# Altium footprint library PowerLoadAdjustableModule.PcbLib: 49 footprints (part 3 of 4)
Each footprint in its own frame and in the unit in brackets; x right, y up, seen from the top. Pads: shape width x height; smd on the part's side, far side on the other; paste and mask are expansions set on the pad; w line width, h text height; cw(c..) or ccw(c..) is an arc to the next point about the centre after c.
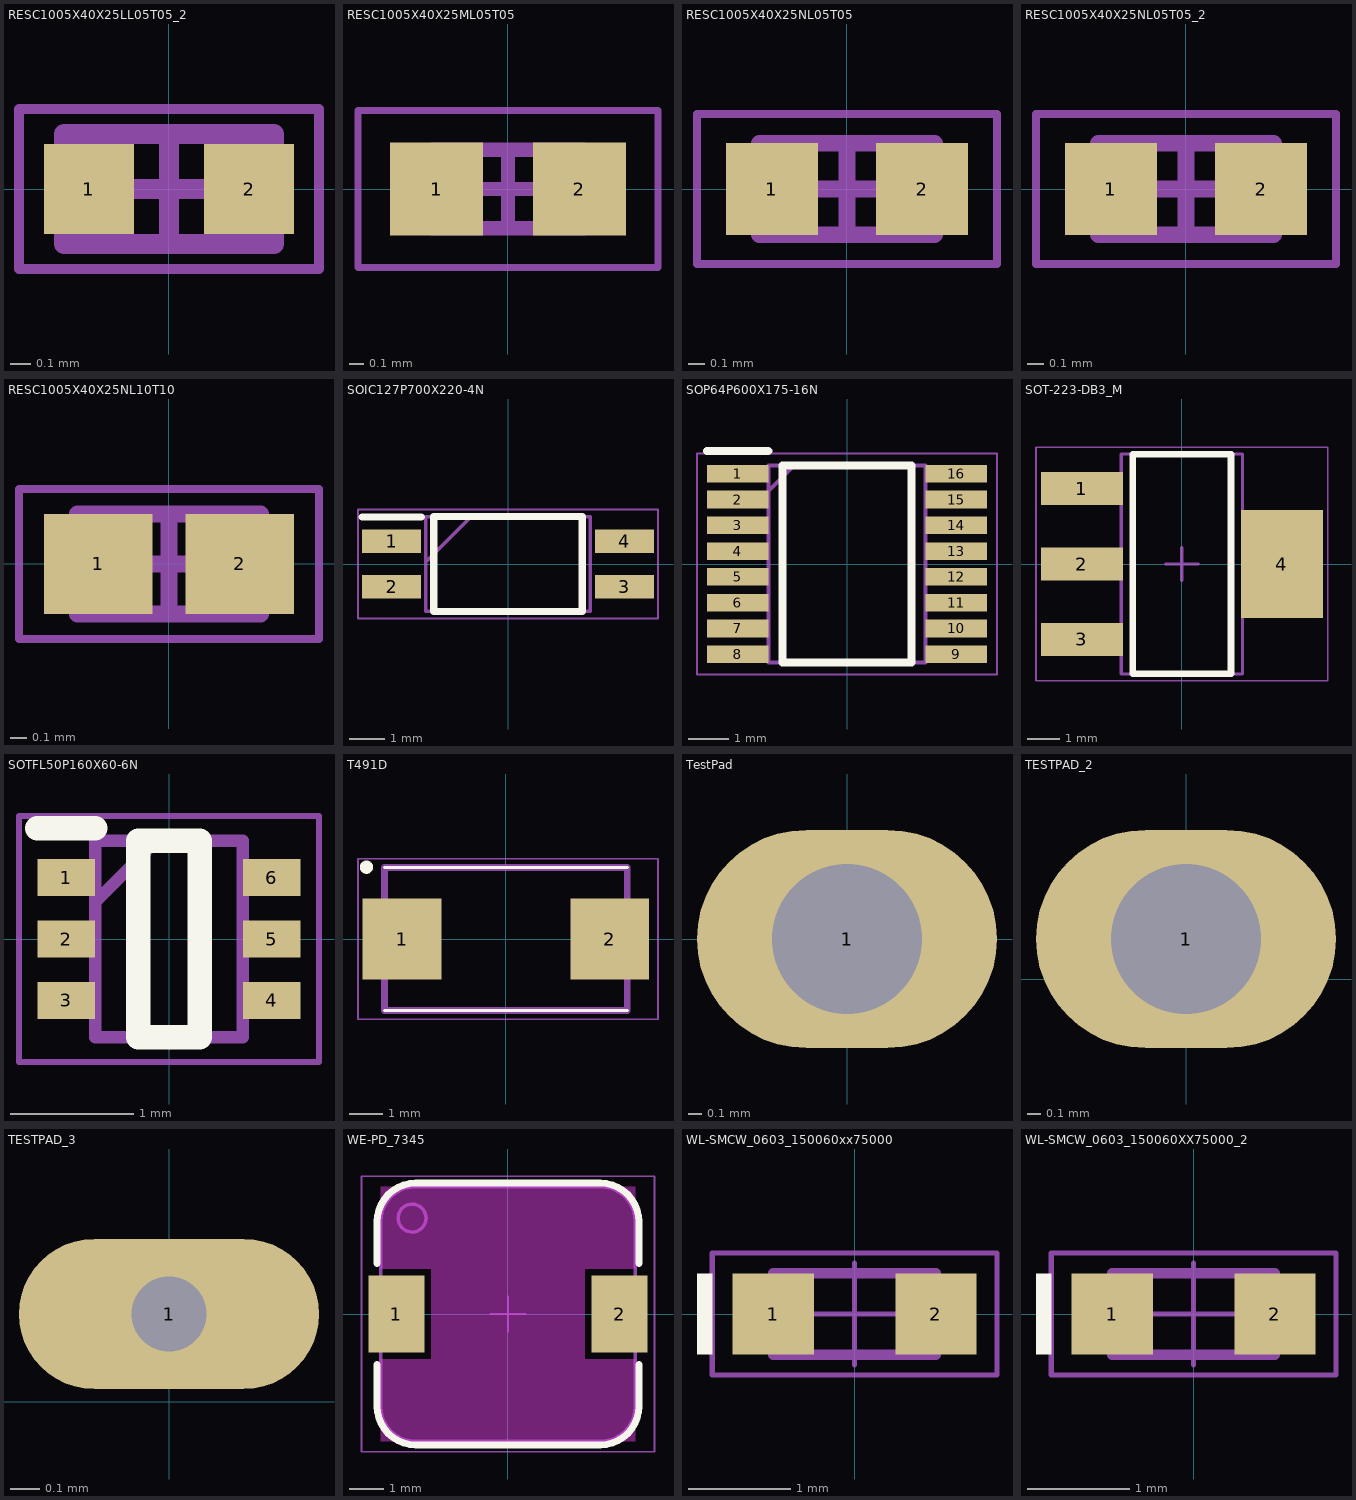
[diagram p2: the footprints below, top view; thin cyan lines are the x and y axes]

## RESC1005X40X25LL05T05_2 [mm]
pads (2):
  rect 0.45x0.45 smd: 1(-0.4,0) 2(0.4,0)
Top 3D Body:
  lines w0.1: -0.525,-0.275 0.525,-0.275 0.525,0.275 -0.525,0.275 -0.525,-0.275
Top Courtyard:
  lines w0.05: -0.75,-0.4 0.75,-0.4 0.75,0.4 -0.75,0.4 -0.75,-0.4
  lines w0.1: -0.275,0 0.275,0 ; 0,-0.275 0,0.275
3D body "RESC1005X04L.step": height 0.4, standoff 0, extent -0.525,-0.275 0.525,0.275

## RESC1005X40X25ML05T05 [mm]
pads (2):
  rect 0.65x0.65 smd: 1(-0.5,0) 2(0.5,0)
Top 3D Body:
  lines w0.1: -0.525,-0.275 -0.525,0.275 0.525,0.275 0.525,-0.275 -0.525,-0.275
Top Courtyard:
  lines w0.05: -1.05,-0.55 -1.05,0.55 1.05,0.55 1.05,-0.55 -1.05,-0.55
  lines w0.1: -0.275,0 0.275,0 ; 0,-0.275 0,0.275
3D body: height 0.4, standoff 0, extent -0.275,-0.275 0.275,0.275
3D body: height 0.4, standoff 0, extent -0.525,-0.275 -0.275,0.275
3D body: height 0.4, standoff 0, extent 0.275,-0.275 0.525,0.275

## RESC1005X40X25NL05T05 [mm]
pads (2):
  rect 0.55x0.55 smd: 1(-0.45,0) 2(0.45,0)
Top 3D Body:
  lines w0.1: -0.525,-0.275 -0.525,0.275 0.525,0.275 0.525,-0.275 -0.525,-0.275
Top Courtyard:
  lines w0.05: -0.9,-0.45 -0.9,0.45 0.9,0.45 0.9,-0.45 -0.9,-0.45
  lines w0.1: -0.275,0 0.275,0 ; 0,-0.275 0,0.275
3D body "RESC1005X04N.step": height 0.4, standoff 0, extent -0.525,-0.275 0.525,0.275

## RESC1005X40X25NL05T05_2 [mm]
pads (2):
  rect 0.55x0.55 smd: 1(-0.45,0) 2(0.45,0)
Top 3D Body:
  lines w0.1: -0.525,-0.275 -0.525,0.275 0.525,0.275 0.525,-0.275 -0.525,-0.275
Top Courtyard:
  lines w0.05: -0.9,-0.45 -0.9,0.45 0.9,0.45 0.9,-0.45 -0.9,-0.45
  lines w0.1: -0.275,0 0.275,0 ; 0,-0.275 0,0.275
3D body: height 0.4, standoff 0, extent 0.275,-0.275 0.525,0.275
3D body: height 0.4, standoff 0, extent -0.525,-0.275 -0.275,0.275
3D body: height 0.4, standoff 0, extent -0.275,-0.275 0.275,0.275

## RESC1005X40X25NL10T10 [mm]
pads (2):
  rect 0.65x0.6 smd: 1(-0.425,0) 2(0.425,0)
Top 3D Body:
  lines w0.1: -0.55,-0.3 0.55,-0.3 0.55,0.3 -0.55,0.3 -0.55,-0.3
Top Courtyard:
  lines w0.05: -0.9,-0.45 0.9,-0.45 0.9,0.45 -0.9,0.45 -0.9,-0.45
  lines w0.1: -0.3,0 0.3,0 ; 0,-0.3 0,0.3
3D body: height 0.4, standoff 0, extent 0.3,-0.3 0.55,0.3
3D body: height 0.4, standoff 0, extent -0.55,-0.3 -0.3,0.3
3D body: height 0.4, standoff 0, extent -0.3,-0.3 0.3,0.3

## SOIC127P700X220-4N [mm]
pads (4):
  rect 1.65x0.65 smd: 1(-3.25,0.635) 2(-3.25,-0.635) 3(3.25,-0.635) 4(3.25,0.635)
Top Overlay:
  lines w0.2: -4.075,1.31 -2.425,1.31 ; -2.075,-1.325 2.075,-1.325 2.075,1.325 -2.075,1.325 -2.075,-1.325
Top 3D Body:
  lines w0.1: -2.3,0.055 -1.03,1.325 ; -2.3,-1.325 2.3,-1.325 2.3,1.325 -2.3,1.325 -2.3,-1.325
Top Courtyard:
  lines w0.05: -4.191,-1.524 4.191,-1.524 4.191,1.524 -4.191,1.524 -4.191,-1.524
3D body "TLP291_Y,SE_T.stp": height 2.2, standoff 0, extent -3.5,-1.325 3.5,1.325

## SOP64P600X175-16N [mm]
pads (16):
  rect 1.52x0.44 smd: 1(-2.715,2.24) 2(-2.715,1.6) 3(-2.715,0.96) 4(-2.715,0.32) 5(-2.715,-0.32) 6(-2.715,-0.96) 7(-2.715,-1.6) 8(-2.715,-2.24) 9(2.715,-2.24) 10(2.715,-1.6) 11(2.715,-0.96) 12(2.715,-0.32) 13(2.715,0.32) 14(2.715,0.96) 15(2.715,1.6) 16(2.715,2.24)
Top Overlay:
  lines w0.2: -3.475,2.81 -1.955,2.81 ; -1.605,-2.45 -1.605,2.45 1.605,2.45 1.605,-2.45 -1.605,-2.45
Top 3D Body:
  lines w0.1: -1.955,1.81 -1.315,2.45 ; -1.955,-2.45 -1.955,2.45 1.955,2.45 1.955,-2.45 -1.955,-2.45
Top Courtyard:
  lines w0.05: -3.725,-2.75 -3.725,2.75 3.725,2.75 3.725,-2.75 -3.725,-2.75
3D body "ADUM1440ARQZ.stp": height 1.75, standoff 0, extent -2.997,-2.45 2.997,2.45

## SOT-223-DB3_M [mm]
pads (4):
  rect 2.5x1 smd: 1(-3.05,2.3) 2(-3.05,0) 3(-3.05,-2.3)
  rect 2.5x3.3 smd: 4(3.05,0)
Top Overlay:
  lines w0.2: -1.5,-3.35 -1.5,3.35 1.5,3.35 1.5,-3.35 -1.5,-3.35
Top 3D Body:
  lines w0.1: -1.85,-3.35 -1.85,3.35 1.85,3.35 1.85,-3.35 -1.85,-3.35
Top Courtyard:
  lines w0.05: -4.445,-3.556 -4.445,3.556 4.445,3.556 4.445,-3.556 -4.445,-3.556
  lines w0.1: -0.5,0 0.5,0 ; 0,-0.5 0,0.5
3D body: height 1.8, standoff 0.02, extent -1.85,-3.35 1.85,3.35

## SOTFL50P160X60-6N [mm]
pads (6):
  rect 0.47x0.3 smd: 1(-0.835,0.5) 2(-0.835,0) 3(-0.835,-0.5) 4(0.835,-0.5) 5(0.835,0) 6(0.835,0.5)
Top Overlay:
  lines w0.2: -1.07,0.9 -0.6,0.9 ; -0.25,-0.8 -0.25,0.8 0.25,0.8 0.25,-0.8 -0.25,-0.8
Top 3D Body:
  lines w0.1: -0.6,0.3 -0.1,0.8 ; -0.6,-0.8 -0.6,0.8 0.6,0.8 0.6,-0.8 -0.6,-0.8
Top Courtyard:
  lines w0.05: -1.22,-1 -1.22,1 1.22,1 1.22,-1 -1.22,-1
3D body "SI1029X-T1-GE3.stp": height 0.6, standoff 0, extent -0.8,-0.8 0.8,0.8

## T491D [mm]
pads (2):
  rect 2.37x2.43 smd: 1(-3.12,0) 2(3.12,0)
Top Overlay:
  circle w0.2: c-4.191,2.159 r0.1
  lines w0.1: -3.65,-2.15 3.65,-2.15 ; -3.65,2.15 3.65,2.15
Top 3D Body:
  lines w0.2: -3.65,-2.15 -3.65,2.15 3.65,2.15 3.65,-2.15 -3.65,-2.15
Top Courtyard:
  lines w0.05: -4.445,-2.413 -4.445,2.413 4.572,2.413 4.572,-2.413 -4.445,-2.413
3D body "T491D106K050AT.stp": height 3.11, standoff 0, extent -3.8,-2.3 3.8,2.3

## TestPad [mm]
pads (1):
  oval 2.2x1.6 hole 1.1: 1(0,0)

## TESTPAD_2 [mm]
pads (1):
  oval 2.2x1.6 hole 1.1: 1(0,0.297)

## TESTPAD_3 [mil]
pads (1):
  oval 40x20 hole 10: 1(0,11.69)

## WE-PD_7345 [mm]
pads (2):
  rect 1.6x2.2 smd: 1(-3.2,0) 2(3.2,0)
Top Layer keep-out:
  region: -3.65,-3.65 -3.65,-1.3 -2.2,-1.3 -2.2,1.3 -3.65,1.3 -3.65,3.65 3.65,3.65 3.65,1.3 2.2,1.3 2.2,-1.3 3.65,-1.3 3.65,-3.65
Top Overlay:
  lines w0.2: -3.75,-1.45 -3.75,-2.65 ccw(c-2.65,-2.65) -2.65,-3.75 2.65,-3.75 ccw(c2.65,-2.65) 3.75,-2.65 3.75,-1.45 ; -3.75,1.45 -3.75,2.65 cw(c-2.65,2.65) -2.65,3.75 2.65,3.75 cw(c2.65,2.65) 3.75,2.65 3.75,1.45
Top Designator:
  text ".Designator" at -7.498,-0.5 h1.5
Top Component Outline:
  circle w0.1: c-2.75,2.75 r0.4
  lines w0.1: -3.65,-2.65 ccw(c-2.65,-2.65) -2.65,-3.65 2.65,-3.65 ccw(c2.65,-2.65) 3.65,-2.65 3.65,2.65 ccw(c2.65,2.65) 2.65,3.65 -2.65,3.65 ccw(c-2.65,2.65) -3.65,2.65 -3.65,-2.65
Top 3D Body:
  circle w0.1: c-2.75,2.75 r0.4
  lines w0.1: -3.65,-2.65 ccw(c-2.65,-2.65) -2.65,-3.65 2.65,-3.65 ccw(c2.65,-2.65) 3.65,-2.65 3.65,2.65 ccw(c2.65,2.65) 2.65,3.65 -2.65,3.65 ccw(c-2.65,2.65) -3.65,2.65 -3.65,-2.65
Top Courtyard:
  lines w0.05: -0.5,0 0.5,0 ; 0,-0.5 0,0.5 ; -4.2,-3.95 4.2,-3.95 4.2,3.95 -4.2,3.95 -4.2,-3.95
3D body "WE-PD_7345_m-base_744777xxx.stp": height 3.91, standoff -0.01, extent -3.65,-3.65 3.65,3.65

## WL-SMCW_0603_150060xx75000 [mm]
pads (2):
  rect 0.8x0.8 smd: 1(-0.8,0) 2(0.8,0)
Top Overlay:
  rectangle: -1.55,-0.4 -1.4,0.4
Top Designator:
  text ".Designator" at -2.499,-0.167 h0.5
Top Component Outline:
  rectangle: -0.8,-0.4 -0.5,0.4
  lines w0.1: -0.8,-0.4 0.8,-0.4 0.8,0.4 -0.8,0.4 -0.8,-0.4
Top Courtyard:
  lines w0.05: -1.4,-0.6 1.4,-0.6 1.4,0.6 -1.4,0.6 -1.4,-0.6
Top Component Center:
  lines w0.05: -0.5,0 0.5,0 ; 0,-0.5 0,0.5
3D body "150060xxx.stp": height 0.7, standoff 0, extent -0.8,-0.4 0.8,0.4

## WL-SMCW_0603_150060XX75000_2 [mm]
pads (2):
  rect 0.8x0.8 smd: 1(-0.8,0) 2(0.8,0)
Top Overlay:
  rectangle: -1.55,-0.4 -1.4,0.4
Top Designator:
  text ".Designator" at -2.499,-0.167 h0.5
Top Component Outline:
  rectangle: -0.8,-0.4 -0.5,0.4
  lines w0.1: -0.8,-0.4 0.8,-0.4 0.8,0.4 -0.8,0.4 -0.8,-0.4
Top Courtyard:
  lines w0.05: -1.4,-0.6 1.4,-0.6 1.4,0.6 -1.4,0.6 -1.4,-0.6
Top Component Center:
  lines w0.05: -0.5,0 0.5,0 ; 0,-0.5 0,0.5
3D body "150060xxx.stp": height 0.7, standoff 0, extent -0.8,-0.4 0.8,0.4